# EAGLE library part RJ45V_ERNI (library Traficon)
CT: 12-06-08 Changed the tPlace layer with conformance to the HALO HFJV1-2450 component.
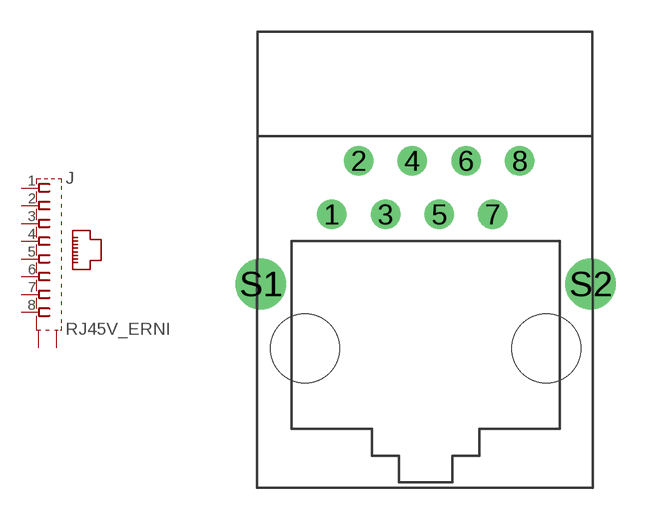
[diagram p124: symbol with the pads of RJ45V_ERNI; footprint RJ45V_ERNI]

Designator prefix J

## RJ45V_ERNI  [RJ45V_ERNI]
1  1  pas
2  2  pas
3  3  pas
4  4  pas
5  5  pas
6  6  pas
7  7  pas
8  8  pas
S1  S1  pas
S2  S2  pas

## Footprint RJ45V_ERNI (pad centres in mm)
drill 0.889 round: 1 -4.445,6.35; 2 -3.175,8.89; 3 -1.905,6.35; 4 -0.635,8.89; 5 0.635,6.35; 6 1.905,8.89; 7 3.175,6.35; 8 4.445,8.89
drill 1.6 round: S1 -7.81,3.05; S2 7.81,3.05
hole 3.251 at -5.715,0
hole 3.251 at 5.715,0